# EAGLE library part TL598_BIG (library Radicon)
TL598 PWM IC
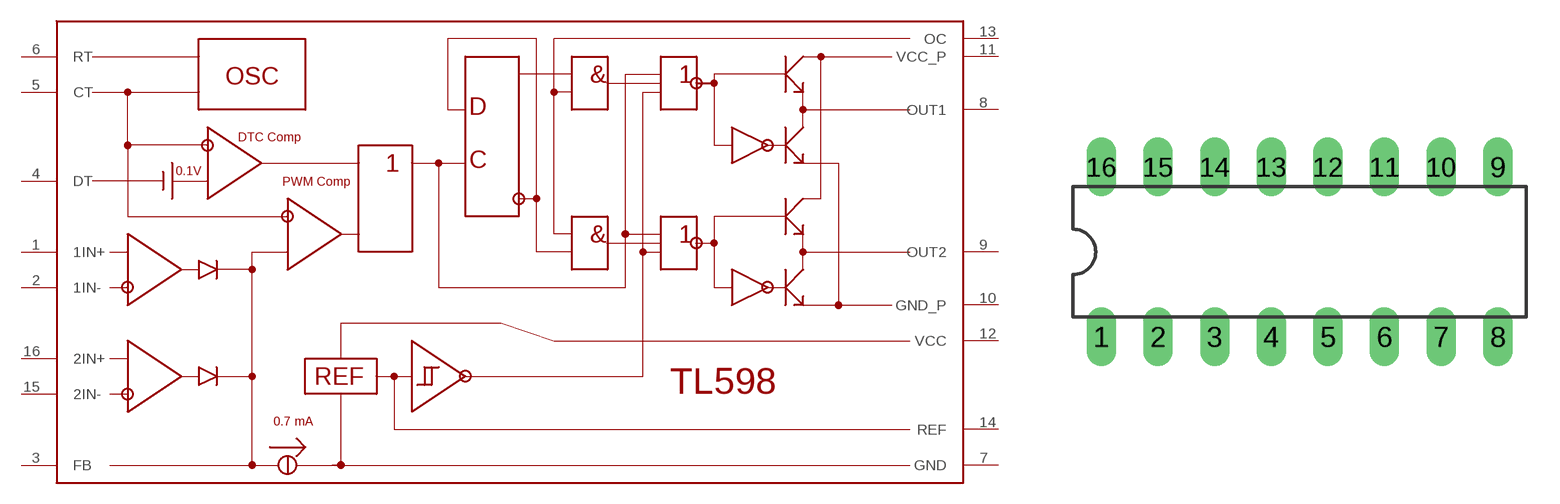
[diagram p17: symbol with the pads of DIL16; footprint DIL16]

Designator prefix IC

## TL598_BIG  [DIL16]
1  1IN+
2  1IN-
3  FB  out
4  DT  in
5  CT  pas
6  RT  pas
7  GND  pwr
8  OUT1  out
9  OUT2  out
10  GND_P  pwr
11  VCC_P  pwr
12  VCC  pwr
13  OC  in
14  REF  out
15  2IN-
16  2IN+

## Footprint DIL16 (pad centres in mm)
Dual In Line Package
drill 0.813 long: 1 -8.89,-3.81; 2 -6.35,-3.81; 3 -3.81,-3.81; 4 -1.27,-3.81; 5 1.27,-3.81; 6 3.81,-3.81; 7 6.35,-3.81; 8 8.89,-3.81; 9 8.89,3.81; 10 6.35,3.81; 11 3.81,3.81; 12 1.27,3.81; 13 -1.27,3.81; 14 -3.81,3.81; 15 -6.35,3.81; 16 -8.89,3.81